# EAGLE library part MLW06 (library #PaJa_konektory)
Konektory MLW - vidlice - 6x
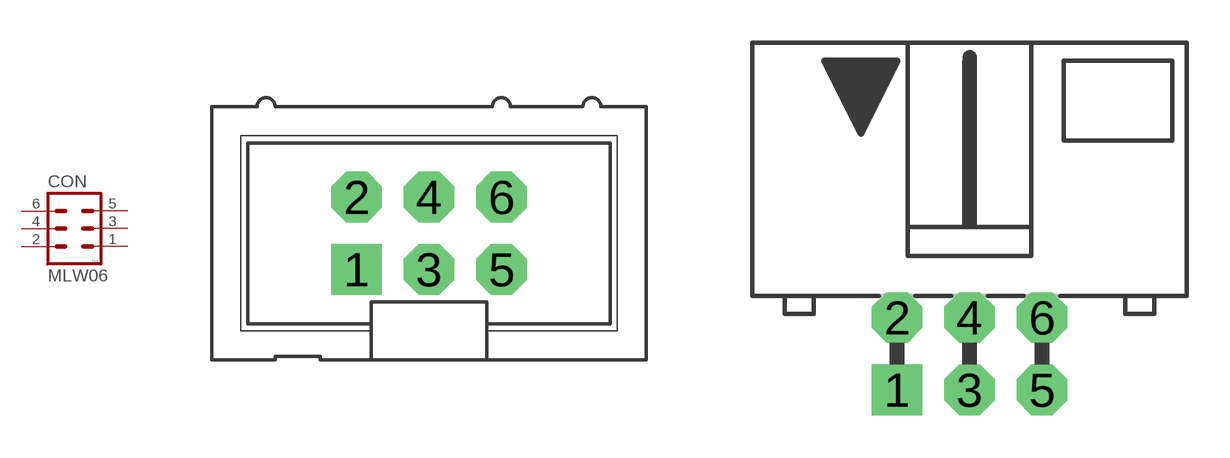
[diagram p4: symbol with the pads of MLW06G; footprints MLW06G, MLW06A]

Designator prefix CON

## MLW06  [MLW06G]
1  1  pas
2  2  pas
3  3  pas
4  4  pas
5  5  pas
6  6  pas

## MLW06_90°  [MLW06A]
Pads as for MLW06G

## Footprint MLW06G (pad centres in mm)
drill 0.914 pad 1.778 square: 1 -2.54,-1.27
drill 0.914 pad 1.778 octagon: 2 -2.54,1.27; 3 0,-1.27; 4 0,1.27; 5 2.54,-1.27; 6 2.54,1.27

## Footprint MLW06A (pad centres in mm)
HARTING
drill 0.914 pad 1.778 square: 1 -2.54,-1.27
drill 0.914 pad 1.778 octagon: 2 -2.54,1.27; 3 0,-1.27; 4 0,1.27; 5 2.54,-1.27; 6 2.54,1.27